# Altium footprint library ir_receivers.PcbLib: 7 footprints
Each footprint in its own frame and in the unit in brackets; x right, y up, seen from the top. Pads: shape width x height; smd on the part's side, far side on the other; paste and mask are expansions set on the pad; w line width, h text height; cw(c..) or ccw(c..) is an arc to the next point about the centre after c.
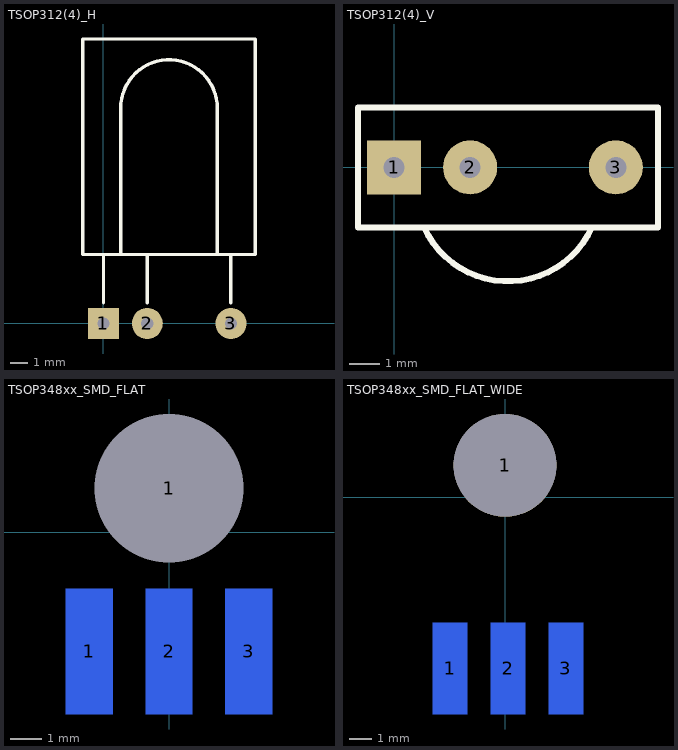
[diagram p0: the footprints below, top view; thin cyan lines are the x and y axes]

## TSOP312(4)_H [mm]
pads (3):
  rect 1.8x1.8 hole 0.7: 1(0,0)
  round 1.8 hole 0.7: 2(2.54,0) 3(7.392,0)
Top Overlay:
  lines w0.2: 0,1.2 0,4 ; 2.54,1.2 2.54,4 ; 7.392,1.2 7.392,4 ; 1,4 6.6,4 ; 1,4 1,12.5 cw(c3.8,12.5) 6.6,12.5 6.6,4 ; 1,4 -1.2,4 -1.2,16.5 8.8,16.5 8.8,4 6.6,4
3D body "User Library-TSOP1238_2009.step": height 5.95, standoff -2, extent -1.2,-0.2 8.8,16.5

## TSOP312(4)_V [mm]
pads (3):
  rect 1.8x1.8 hole 0.7: 1(0,0)
  round 1.8 hole 0.7: 2(2.54,0) 3(7.392,0)
Top Overlay:
  lines w0.2: 1,-2 ccw(c3.8,-0.722) 6.6,-2 ; 1,-2 -1.2,-2 -1.2,2 8.8,2 8.8,-2 6.6,-2 ; 1,-2 6.6,-2
3D body "User Library-User Library-tsop312.step": height 12.6, standoff -1.9, extent -1.19,-3.8 8.81,2

## TSOP348xx_1 [mm]
3D body "User Library-IR reciver_1.STEP": height 9.63, standoff -3.47, extent -1.984,-3.458 4.016,4.327

## TSOP348xx_2 [mm]
3D body "User Library-IR reciver_2.STEP": height 10.48, standoff -3.47, extent 0.556,-1.27 6.556,3.946

## TSOP348xx_3 [mm]
3D body "User Library-IR reciver_3.STEP": height 9.72, standoff -3.47, extent 1.445,-4.445 7.445,0.771

## TSOP348xx_SMD_FLAT [mm]
pads (4):
  rect 1.5x4 smd far side: 1(-2.54,-3.81) 2(0,-3.81) 3(2.54,-3.81)
  round 4.5 hole 4.75: 1(0,1.397)
3D body "User Library-IR reciver_5.STEP": height 3.95, standoff -1.27, extent -2.952,-6.968 3.048,4.471

## TSOP348xx_SMD_FLAT_WIDE [mm]
pads (4):
  rect 1.5x4 smd far side: 1(-2.413,-7.493) 2(0.127,-7.493) 3(2.667,-7.493)
  round 4.5 hole 4.5: 1(0,1.397)
3D body "User Library-IR reciver_4.STEP": height 3.8, standoff -1.42, extent -2.952,-8.789 3.048,4.471